# Altium schematic symbol library kmilo17pet-NSC_Interface.SchLib: 1433 symbols (part 48 of 51)
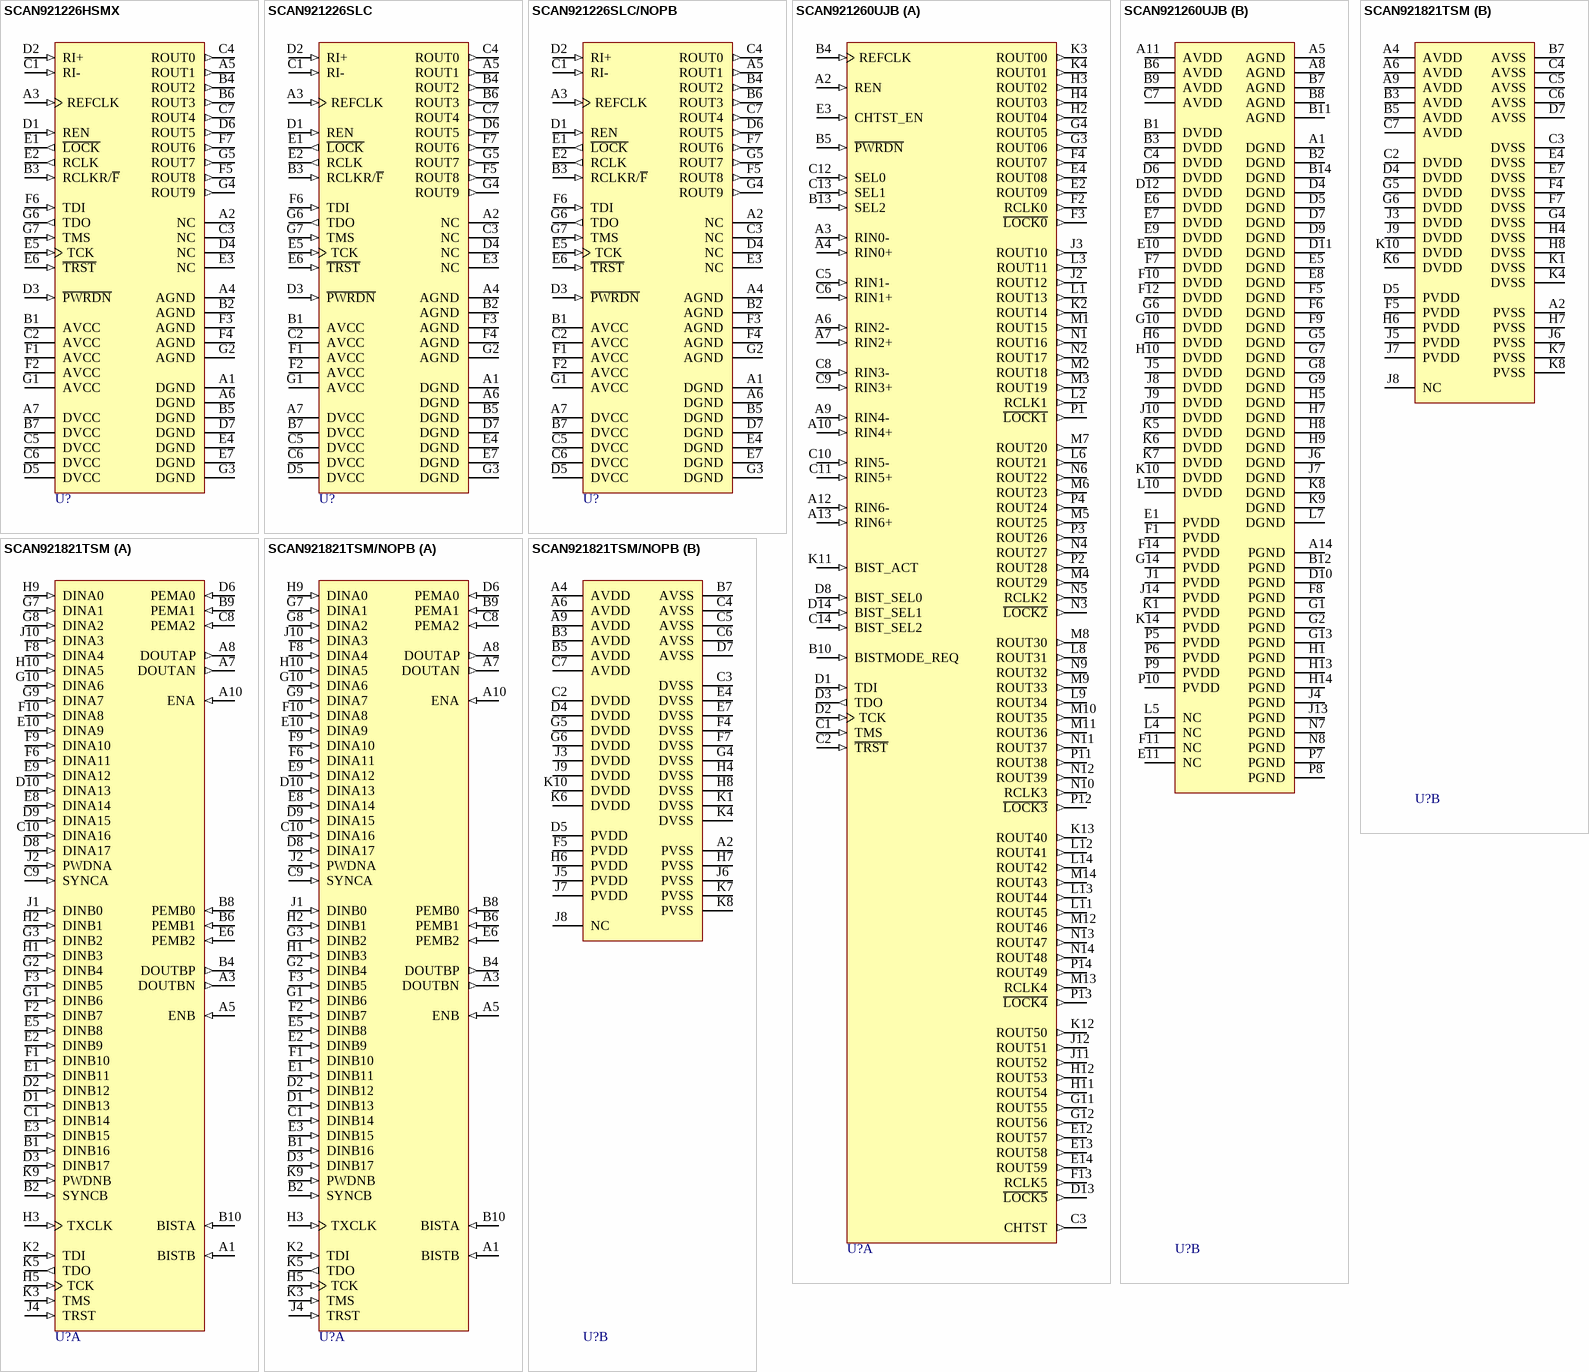
[diagram p171: symbols SCAN921226HSMX to SCAN921821TSM/NOPB]

## SCAN921226HSMX
designator U?
High Temperature 20MHz - 80MHz 10-Bit Deserializer with IEEE 1149.1 Test Access, 49-pin FBGA; PartNumber: SCAN921226HSMX; Manufacturer: National Semiconductor; PackageTopMarking: NSUZXYTTE#*SCAN921226*HSM; PowerWise: N; CompType: Interface IC; High-Reliability: Y; DatasheetVersion: Dec-2005; PackageVersion: revB, Jan, 2003; PackageReference: SLC49A; PackageDescription: FBGA, Plastic, Laminated, 7 x 7 x 1.4mm Body, 49 Ball, 0.8mm Pitch; RoHS: N; PinCount: 49; ComponentLink1Description: Manufacturer URL; ComponentLink1URL: http://www.national.com/; ComponentLink2Description: SCAN921226H Datasheet; ComponentLink2URL: http://www.national.com/ds/SC/SCAN921226H.pdf; ComponentLink3Description: SCAN921226H Web Page; ComponentLink3URL: http://www.national.com/pf/SC/SCAN921226H.html; ComponentLink4Description: SLC49A Package Page; ComponentLink4URL: http://www.national.com/packaging/folders/slc49a.html
footprint SLC49A (BGA, 49-Leads, Body 7x7mm, Pitch 0.8mm)
pins: A1 DGND (power), A2 NC, A3 REFCLK (in), A4 AGND (power), A5 ROUT1 (out), A6 DGND (power), A7 DVCC (power), B1 AVCC (power), B2 AGND (power), B3 RCLKR/~{F} (in), B4 ROUT2 (out), B5 DGND (power), B6 ROUT3 (out), B7 DVCC (power), C1 RI- (in), C2 AVCC (power), C3 NC, C4 ROUT0 (out), C5 DVCC (power), C6 DVCC (power), C7 ROUT4 (out), D1 REN (in), D2 RI+ (in), D3 ~{PWRDN} (in), D4 NC, D5 DVCC (power), D6 ROUT5 (out), D7 DGND (power), E1 ~{LOCK} (out), E2 RCLK (out), E3 NC, E4 DGND (power), E5 TCK (in), E6 ~{TRST} (in), E7 DGND (power), F1 AVCC (power), F2 AVCC (power), F3 AGND (power), F4 AGND (power), F5 ROUT8 (out), F6 TDI (in), F7 ROUT6 (out), G1 AVCC (power), G2 AGND (power), G3 DGND (power), G4 ROUT9 (out), G5 ROUT7 (out), G6 TDO (out), G7 TMS (in)

## SCAN921226SLC
designator U?
30MHz - 80MHz 10-Bit Deserializer with IEEE 1149.1 Test Access, 49-pin FBGA; PartNumber: SCAN921226SLC; Manufacturer: National Semiconductor; PackageTopMarking: NSUZXYTTE#*SCAN921226*SLC; PowerWise: N; CompType: Interface IC; High-Reliability: Y; DatasheetVersion: Dec-2001; PackageVersion: revB, Jan, 2003; PackageReference: SLC49A; PackageDescription: FBGA, Plastic, Laminated, 7 x 7 x 1.4mm Body, 49 Ball, 0.8mm Pitch; RoHS: N; PinCount: 49; ComponentLink1Description: Manufacturer URL; ComponentLink1URL: http://www.national.com/; ComponentLink2Description: SCAN921226 Datasheet; ComponentLink2URL: http://www.national.com/ds/SC/SCAN921226.pdf; ComponentLink3Description: SCAN921226 Web Page; ComponentLink3URL: http://www.national.com/pf/SC/SCAN921226.html; ComponentLink4Description: SLC49A Package Page; ComponentLink4URL: http://www.national.com/packaging/folders/slc49a.html
footprint SLC49A (BGA, 49-Leads, Body 7x7mm, Pitch 0.8mm)
pins: A1 DGND (power), A2 NC, A3 REFCLK (in), A4 AGND (power), A5 ROUT1 (out), A6 DGND (power), A7 DVCC (power), B1 AVCC (power), B2 AGND (power), B3 RCLKR/~{F} (in), B4 ROUT2 (out), B5 DGND (power), B6 ROUT3 (out), B7 DVCC (power), C1 RI- (in), C2 AVCC (power), C3 NC, C4 ROUT0 (out), C5 DVCC (power), C6 DVCC (power), C7 ROUT4 (out), D1 REN (in), D2 RI+ (in), D3 ~{PWRDN} (in), D4 NC, D5 DVCC (power), D6 ROUT5 (out), D7 DGND (power), E1 ~{LOCK} (out), E2 RCLK (out), E3 NC, E4 DGND (power), E5 TCK (in), E6 ~{TRST} (in), E7 DGND (power), F1 AVCC (power), F2 AVCC (power), F3 AGND (power), F4 AGND (power), F5 ROUT8 (out), F6 TDI (in), F7 ROUT6 (out), G1 AVCC (power), G2 AGND (power), G3 DGND (power), G4 ROUT9 (out), G5 ROUT7 (out), G6 TDO (out), G7 TMS (in)

## SCAN921226SLC/NOPB
designator U?
30MHz - 80MHz 10-Bit Deserializer with IEEE 1149.1 Test Access, 49 pin FBGA; PartNumber: SCAN921226SLC/NOPB; Manufacturer: National Semiconductor; PackageTopMarking: NSUZXYTTE#*SCAN921226*SLC; PowerWise: N; CompType: Interface IC; High-Reliability: Y; DatasheetVersion: Dec-2001; PackageVersion: revB, Jan, 2003; PackageReference: SLC49A; PackageDescription: FBGA, Plastic, Laminated, 7 x 7 x 1.4mm Body, 49 Ball, 0.8mm Pitch; RoHS: Y; PinCount: 49; ComponentLink1Description: Manufacturer URL; ComponentLink1URL: http://www.national.com/; ComponentLink2Description: SCAN921226 Datasheet; ComponentLink2URL: http://www.national.com/ds/SC/SCAN921226.pdf; ComponentLink3Description: SCAN921226 Web Page; ComponentLink3URL: http://www.national.com/pf/SC/SCAN921226.html; ComponentLink4Description: SLC49A Package Page; ComponentLink4URL: http://www.national.com/packaging/folders/slc49a.html
footprint SLC49A (BGA, 49-Leads, Body 7x7mm, Pitch 0.8mm)
pins: A1 DGND (power), A2 NC, A3 REFCLK (in), A4 AGND (power), A5 ROUT1 (out), A6 DGND (power), A7 DVCC (power), B1 AVCC (power), B2 AGND (power), B3 RCLKR/~{F} (in), B4 ROUT2 (out), B5 DGND (power), B6 ROUT3 (out), B7 DVCC (power), C1 RI- (in), C2 AVCC (power), C3 NC, C4 ROUT0 (out), C5 DVCC (power), C6 DVCC (power), C7 ROUT4 (out), D1 REN (in), D2 RI+ (in), D3 ~{PWRDN} (in), D4 NC, D5 DVCC (power), D6 ROUT5 (out), D7 DGND (power), E1 ~{LOCK} (out), E2 RCLK (out), E3 NC, E4 DGND (power), E5 TCK (in), E6 ~{TRST} (in), E7 DGND (power), F1 AVCC (power), F2 AVCC (power), F3 AGND (power), F4 AGND (power), F5 ROUT8 (out), F6 TDI (in), F7 ROUT6 (out), G1 AVCC (power), G2 AGND (power), G3 DGND (power), G4 ROUT9 (out), G5 ROUT7 (out), G6 TDO (out), G7 TMS (in)

## SCAN921260UJB
designator U?
Six 1 to 10 deserializers with IEEE 1149.1 and at-speed BIST, 196-pin LBGA; PartNumber: SCAN921260UJB; Manufacturer: National Semiconductor; PackageTopMarking: NSUZXYYTTE#*SCAN921260*UJB; PowerWise: N; CompType: Interface IC; High-Reliability: Y; DatasheetVersion: Jul-2004; PackageVersion: revC, Jul-2005; PackageReference: UJB196A; PackageDescription: LBGA, 15 x 15 x 1.37mm, 196 Ball, 1.0mm Pitch; RoHS: N; PinCount: 196; Code_JEDEC: MO-192-AAE-1; ComponentLink1Description: Manufacturer URL; ComponentLink1URL: http://www.national.com/; ComponentLink2Description: SCAN921260 Datasheet; ComponentLink2URL: http://www.national.com/ds/SC/SCAN921260.pdf; ComponentLink3Description: SCAN921260 Web Page; ComponentLink3URL: http://www.national.com/pf/SC/SCAN921260.html; ComponentLink4Description: UJB196A Package Page; ComponentLink4URL: http://www.national.com/packaging/folders/ujb196a.html
footprint UJB196A (BGA, 196-Leads, Body 15x15mm, Pitch 1mm)
part A pins: A2 REN (in), A3 RIN0- (in), A4 RIN0+ (in), A6 RIN2- (in), A7 RIN2+ (in), A9 RIN4- (in), A10 RIN4+ (in), A12 RIN6- (in), A13 RIN6+ (in), B4 REFCLK (in), B5 ~{PWRDN} (in), B10 BISTMODE_REQ (in), B13 SEL2 (in), C1 TMS (in), C2 ~{TRST} (in), C3 CHTST (out), C5 RIN1- (in), C6 RIN1+ (in), C8 RIN3- (in), C9 RIN3+ (in), C10 RIN5- (in), C11 RIN5+ (in), C12 SEL0 (in), C13 SEL1 (in), C14 BIST_SEL2 (in), D1 TDI (in), D2 TCK (in), D3 TDO (out), D8 BIST_SEL0 (in), D13 ~{LOCK5} (out), D14 BIST_SEL1 (in), E2 ROUT09 (out), E3 CHTST_EN (in), E4 ROUT08 (out), E12 ROUT57 (out), E13 ROUT58 (out), E14 ROUT59 (out), F2 RCLK0 (out), F3 ~{LOCK0} (out), F4 ROUT07 (out), F13 RCLK5 (out), G3 ROUT06 (out), G4 ROUT05 (out), G11 ROUT55 (out), G12 ROUT56 (out), H2 ROUT04 (out), H3 ROUT02 (out), H4 ROUT03 (out), H11 ROUT54 (out), H12 ROUT53 (out), J2 ROUT12 (out), J3 ROUT10 (out), J11 ROUT52 (out), J12 ROUT51 (out), K2 ROUT14 (out), K3 ROUT00 (out), K4 ROUT01 (out), K11 BIST_ACT (in), K12 ROUT50 (out), K13 ROUT40 (out), L1 ROUT13 (out), L2 RCLK1 (out), L3 ROUT11 (out), L6 ROUT21 (out), L8 ROUT31 (out), L9 ROUT34 (out), L11 ROUT45 (out), L12 ROUT41 (out), L13 ROUT44 (out), L14 ROUT42 (out), M1 ROUT15 (out), M2 ROUT18 (out), M3 ROUT19 (out), M4 ROUT29 (out), M5 ROUT25 (out), M6 ROUT23 (out), M7 ROUT20 (out), M8 ROUT30 (out), M9 ROUT33 (out), M10 ROUT35 (out), M11 ROUT36 (out), M12 ROUT46 (out), M13 RCLK4 (out), M14 ROUT43 (out), N1 ROUT16 (out), N2 ROUT17 (out), N3 ~{LOCK2} (out), N4 ROUT27 (out), N5 RCLK2 (out), N6 ROUT22 (out), N9 ROUT32 (out), N10 RCLK3 (out), N11 ROUT37 (out), N12 ROUT39 (out), N13 ROUT47 (out), N14 ROUT48 (out), P1 ~{LOCK1} (out), P2 ROUT28 (out), P3 ROUT26 (out), P4 ROUT24 (out), P11 ROUT38 (out), P12 ~{LOCK3} (out), P13 ~{LOCK4} (out), P14 ROUT49 (out)
part B pins: A1 DGND (power), A5 AGND (power), A8 AGND (power), A11 AVDD (power), A14 PGND (power), B1 DVDD (power), B2 DGND (power), B3 DVDD (power), B6 AVDD (power), B7 AGND (power), B8 AGND (power), B9 AVDD (power), B11 AGND (power), B12 PGND (power), B14 DGND (power), C4 DVDD (power), C7 AVDD (power), D4 DGND (power), D5 DGND (power), D6 DVDD (power), D7 DGND (power), D9 DGND (power), D10 PGND (power), D11 DGND (power), D12 DVDD (power), E1 PVDD (power), E5 DGND (power), E6 DVDD (power), E7 DVDD (power), E8 DGND (power), E9 DVDD (power), E10 DVDD (power), E11 NC, F1 PVDD (power), F5 DGND (power), F6 DGND (power), F7 DVDD (power), F8 PGND (power), F9 DGND (power), F10 DVDD (power), F11 NC, F12 DVDD (power), F14 PVDD (power), G1 PGND (power), G2 PGND (power), G5 DGND (power), G6 DVDD (power), G7 DGND (power), G8 DGND (power), G9 DGND (power), G10 DVDD (power), G13 PGND (power), G14 PVDD (power), H1 PGND (power), H5 DGND (power), H6 DVDD (power), H7 DGND (power), H8 DGND (power), H9 DGND (power), H10 DVDD (power), H13 PGND (power), H14 PGND (power), J1 PVDD (power), J4 PGND (power), J5 DVDD (power), J6 DGND (power), J7 DGND (power), J8 DVDD (power), J9 DVDD (power), J10 DVDD (power), J13 PGND (power), J14 PVDD (power), K1 PVDD (power), K5 DVDD (power), K6 DVDD (power), K7 DVDD (power), K8 DGND (power), K9 DGND (power), K10 DVDD (power), K14 PVDD (power), L4 NC, L5 NC, L7 DGND (power), L10 DVDD (power), N7 PGND (power), N8 PGND (power), P5 PVDD (power), P6 PVDD (power), P7 PGND (power), P8 PGND (power), P9 PVDD (power), P10 PVDD (power)

## SCAN921821TSM
designator U?
Dual 18-Bit Serializer with Pre-Emphasis, IEEE 1149.1 (JTAG), and At-Speed BIST, 100-pin FBGA; PartNumber: SCAN921821TSM; Manufacturer: National Semiconductor; PackageTopMarking: NSUZXYTTE#*SCAN921821*TSM; PowerWise: N; CompType: Interface IC; High-Reliability: Y; DatasheetVersion: Nov-2004; PackageVersion: revB, Mar-1999; PackageReference: SLC100A; PackageDescription: FBGA, Plastic, Laminated, 10 x 10 x 1.4mm Body, 100 Ball, 0.8mm Pitch; RoHS: N; PinCount: 100; ComponentLink1Description: Manufacturer URL; ComponentLink1URL: http://www.national.com/; ComponentLink2Description: SCAN921821 Datasheet; ComponentLink2URL: http://www.national.com/ds/SC/SCAN921821.pdf; ComponentLink3Description: SCAN921821 Web Page; ComponentLink3URL: http://www.national.com/pf/SC/SCAN921821.html; ComponentLink4Description: SLC100A Package Page; ComponentLink4URL: http://www.national.com/packaging/folders/slc100a.html
footprint SLC100A (BGA, 100-Leads, Body 10x10mm, Pitch 0.8mm)
part A pins: A1 BISTB (in), A3 DOUTBN (out), A5 ENB (in), A7 DOUTAN (out), A8 DOUTAP (out), A10 ENA (in), B1 DINB16 (in), B2 SYNCB (in), B4 DOUTBP (out), B6 PEMB1 (in), B8 PEMB0 (in), B9 PEMA1 (in), B10 BISTA (in), C1 DINB14 (in), C8 PEMA2 (in), C9 SYNCA (in), C10 DINA16 (in), D1 DINB13 (in), D2 DINB12 (in), D3 DINB17 (in), D6 PEMA0 (in), D8 DINA17 (in), D9 DINA15 (in), D10 DINA13 (in), E1 DINB11 (in), E2 DINB9 (in), E3 DINB15 (in), E5 DINB8 (in), E6 PEMB2 (in), E8 DINA14 (in), E9 DINA12 (in), E10 DINA9 (in), F1 DINB10 (in), F2 DINB7 (in), F3 DINB5 (in), F6 DINA11 (in), F8 DINA4 (in), F9 DINA10 (in), F10 DINA8 (in), G1 DINB6 (in), G2 DINB4 (in), G3 DINB2 (in), G7 DINA1 (in), G8 DINA2 (in), G9 DINA7 (in), G10 DINA6 (in), H1 DINB3 (in), H2 DINB1 (in), H3 TXCLK (in), H5 TCK (in), H9 DINA0 (in), H10 DINA5 (in), J1 DINB0 (in), J2 PWDNA (in), J4 TRST (in), J10 DINA3 (in), K2 TDI (in), K3 TMS (in), K5 TDO (out), K9 PWDNB (in)
part B pins: A2 PVSS (power), A4 AVDD (power), A6 AVDD (power), A9 AVDD (power), B3 AVDD (power), B5 AVDD (power), B7 AVSS (power), C2 DVDD (power), C3 DVSS (power), C4 AVSS (power), C5 AVSS (power), C6 AVSS (power), C7 AVDD (power), D4 DVDD (power), D5 PVDD (power), D7 AVSS (power), E4 DVSS (power), E7 DVSS (power), F4 DVSS (power), F5 PVDD (power), F7 DVSS (power), G4 DVSS (power), G5 DVDD (power), G6 DVDD (power), H4 DVSS (power), H6 PVDD (power), H7 PVSS (power), H8 DVSS (power), J3 DVDD (power), J5 PVDD (power), J6 PVSS (power), J7 PVDD (power), J8 NC, J9 DVDD (power), K1 DVSS (power), K4 DVSS (power), K6 DVDD (power), K7 PVSS (power), K8 PVSS (power), K10 DVDD (power)

## SCAN921821TSM/NOPB
designator U?
Dual 18-Bit Serializer with Pre-Emphasis, IEEE 1149.1 (JTAG), and At-Speed BIST, 100-pin FBGA, Pb-Free; PartNumber: SCAN921821TSM/NOPB; Manufacturer: National Semiconductor; PackageTopMarking: NSUZXYTTE#*SCAN921821*TSM; PowerWise: N; CompType: Interface IC; High-Reliability: Y; DatasheetVersion: Nov-2004; PackageVersion: revB, Mar-1999; PackageReference: SLC100A; PackageDescription: FBGA, Plastic, Laminated, 10 x 10 x 1.4mm Body, 100 Ball, 0.8mm Pitch; RoHS: Y; PinCount: 100; ComponentLink1Description: Manufacturer URL; ComponentLink1URL: http://www.national.com/; ComponentLink2Description: SCAN921821 Datasheet; ComponentLink2URL: http://www.national.com/ds/SC/SCAN921821.pdf; ComponentLink3Description: SCAN921821 Web Page; ComponentLink3URL: http://www.national.com/pf/SC/SCAN921821.html; ComponentLink4Description: SLC100A Package Page; ComponentLink4URL: http://www.national.com/packaging/folders/slc100a.html
footprint SLC100A (BGA, 100-Leads, Body 10x10mm, Pitch 0.8mm)
part A pins: A1 BISTB (in), A3 DOUTBN (out), A5 ENB (in), A7 DOUTAN (out), A8 DOUTAP (out), A10 ENA (in), B1 DINB16 (in), B2 SYNCB (in), B4 DOUTBP (out), B6 PEMB1 (in), B8 PEMB0 (in), B9 PEMA1 (in), B10 BISTA (in), C1 DINB14 (in), C8 PEMA2 (in), C9 SYNCA (in), C10 DINA16 (in), D1 DINB13 (in), D2 DINB12 (in), D3 DINB17 (in), D6 PEMA0 (in), D8 DINA17 (in), D9 DINA15 (in), D10 DINA13 (in), E1 DINB11 (in), E2 DINB9 (in), E3 DINB15 (in), E5 DINB8 (in), E6 PEMB2 (in), E8 DINA14 (in), E9 DINA12 (in), E10 DINA9 (in), F1 DINB10 (in), F2 DINB7 (in), F3 DINB5 (in), F6 DINA11 (in), F8 DINA4 (in), F9 DINA10 (in), F10 DINA8 (in), G1 DINB6 (in), G2 DINB4 (in), G3 DINB2 (in), G7 DINA1 (in), G8 DINA2 (in), G9 DINA7 (in), G10 DINA6 (in), H1 DINB3 (in), H2 DINB1 (in), H3 TXCLK (in), H5 TCK (in), H9 DINA0 (in), H10 DINA5 (in), J1 DINB0 (in), J2 PWDNA (in), J4 TRST (in), J10 DINA3 (in), K2 TDI (in), K3 TMS (in), K5 TDO (out), K9 PWDNB (in)
part B pins: A2 PVSS (power), A4 AVDD (power), A6 AVDD (power), A9 AVDD (power), B3 AVDD (power), B5 AVDD (power), B7 AVSS (power), C2 DVDD (power), C3 DVSS (power), C4 AVSS (power), C5 AVSS (power), C6 AVSS (power), C7 AVDD (power), D4 DVDD (power), D5 PVDD (power), D7 AVSS (power), E4 DVSS (power), E7 DVSS (power), F4 DVSS (power), F5 PVDD (power), F7 DVSS (power), G4 DVSS (power), G5 DVDD (power), G6 DVDD (power), H4 DVSS (power), H6 PVDD (power), H7 PVSS (power), H8 DVSS (power), J3 DVDD (power), J5 PVDD (power), J6 PVSS (power), J7 PVDD (power), J8 NC, J9 DVDD (power), K1 DVSS (power), K4 DVSS (power), K6 DVDD (power), K7 PVSS (power), K8 PVSS (power), K10 DVDD (power)

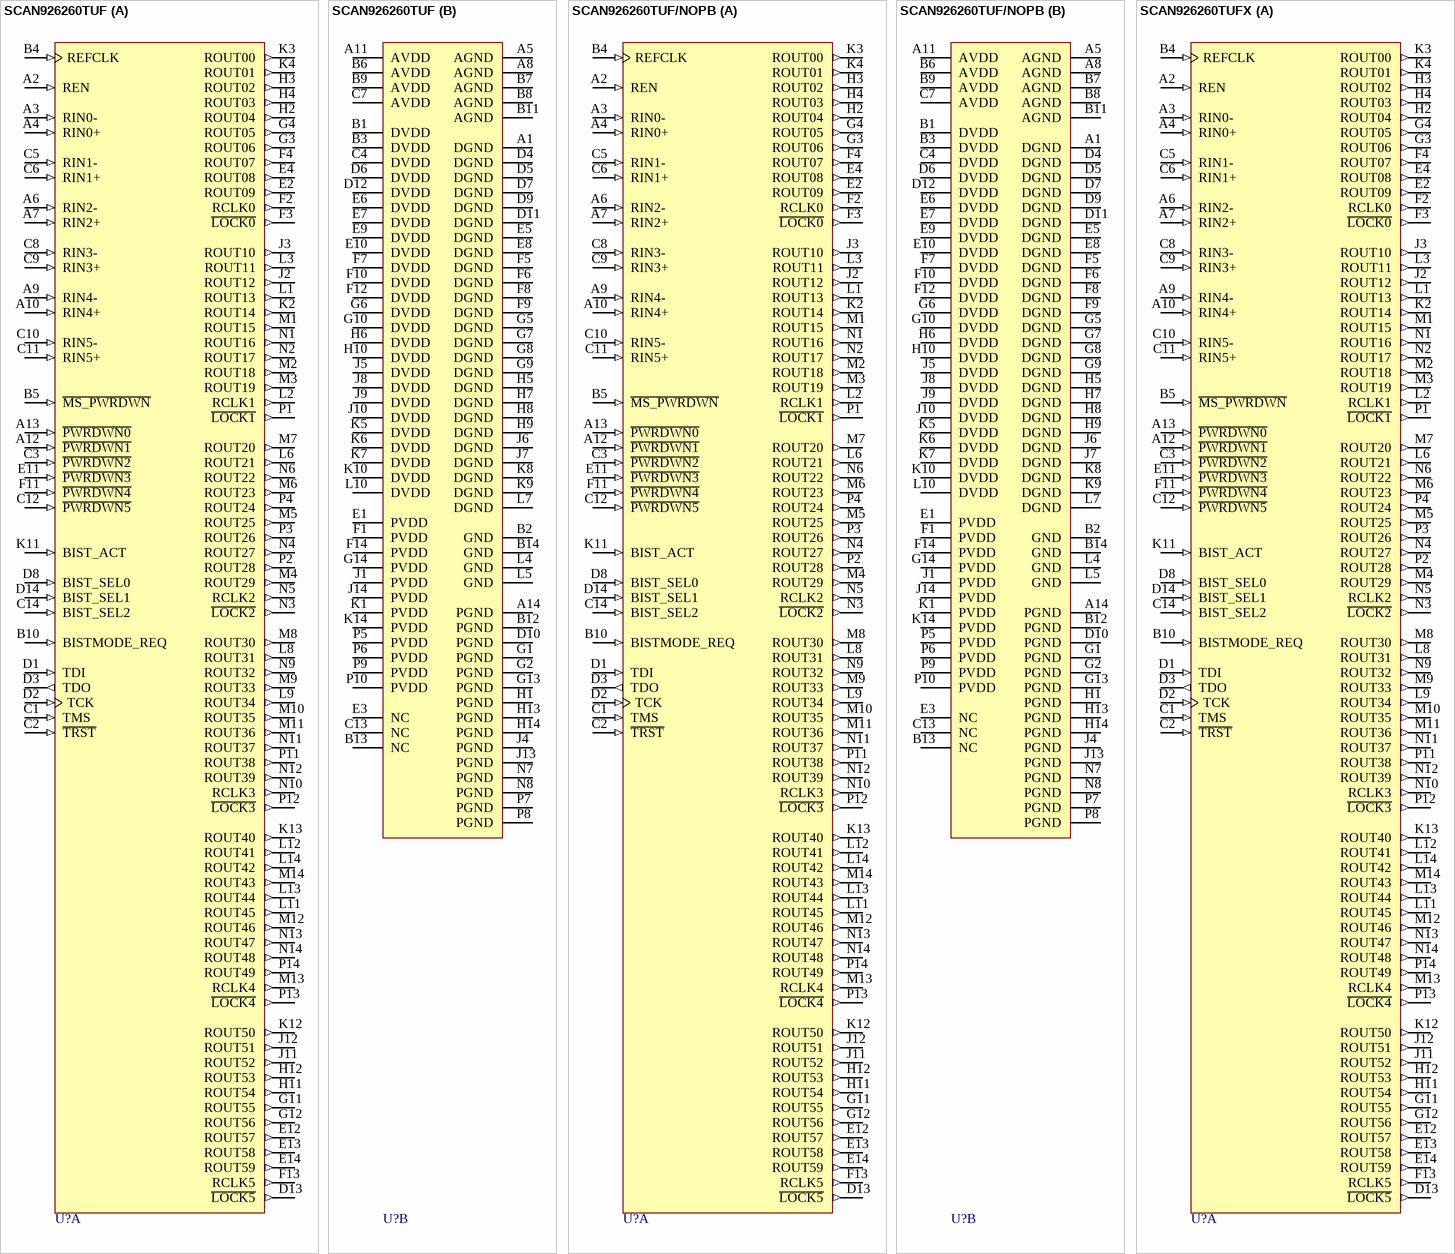
[diagram p116: symbols SCAN926260TUF to SCAN926260TUFX]

## SCAN926260TUF
designator U?
Six 1 to 10 Bus LVDS Deserializers with IEEE 1149.1 and At-Speed BIST, 196-pin LBGA; PartNumber: SCAN926260TUF; Manufacturer: National Semiconductor; PackageTopMarking: NSUZXYYTTE#*SCAN926260T*UF*BBBBB; PowerWise: N; CompType: Interface IC; High-Reliability: Y; DatasheetVersion: May-2008; PackageVersion: revC, Jul-2005; PackageReference: UJB196A; PackageDescription: LBGA, 15 x 15 x 1.37mm, 196 Ball, 1.0mm Pitch; RoHS: N; PinCount: 196; Code_JEDEC: MO-192-AAE-1; ComponentLink1Description: Manufacturer URL; ComponentLink1URL: http://www.national.com/; ComponentLink2Description: SCAN926260 Datasheet; ComponentLink2URL: http://www.national.com/ds/SC/SCAN926260.pdf; ComponentLink3Description: SCAN926260 Web Page; ComponentLink3URL: http://www.national.com/pf/SC/SCAN926260.html; ComponentLink4Description: UJB196A Package Page; ComponentLink4URL: http://www.national.com/packaging/folders/ujb196a.html
footprint UJB196A (BGA, 196-Leads, Body 15x15mm, Pitch 1mm)
part A pins: A2 REN (in), A3 RIN0- (in), A4 RIN0+ (in), A6 RIN2- (in), A7 RIN2+ (in), A9 RIN4- (in), A10 RIN4+ (in), A12 ~{PWRDWN1} (in), A13 ~{PWRDWN0} (in), B4 REFCLK (in), B5 ~{MS_PWRDWN} (in), B10 BISTMODE_REQ (in), C1 TMS (in), C2 ~{TRST} (in), C3 ~{PWRDWN2} (in), C5 RIN1- (in), C6 RIN1+ (in), C8 RIN3- (in), C9 RIN3+ (in), C10 RIN5- (in), C11 RIN5+ (in), C12 ~{PWRDWN5} (in), C14 BIST_SEL2 (in), D1 TDI (in), D2 TCK (in), D3 TDO (out), D8 BIST_SEL0 (in), D13 ~{LOCK5} (out), D14 BIST_SEL1 (in), E2 ROUT09 (out), E4 ROUT08 (out), E11 ~{PWRDWN3} (in), E12 ROUT57 (out), E13 ROUT58 (out), E14 ROUT59 (out), F2 RCLK0 (out), F3 ~{LOCK0} (out), F4 ROUT07 (out), F11 ~{PWRDWN4} (in), F13 RCLK5 (out), G3 ROUT06 (out), G4 ROUT05 (out), G11 ROUT55 (out), G12 ROUT56 (out), H2 ROUT04 (out), H3 ROUT02 (out), H4 ROUT03 (out), H11 ROUT54 (out), H12 ROUT53 (out), J2 ROUT12 (out), J3 ROUT10 (out), J11 ROUT52 (out), J12 ROUT51 (out), K2 ROUT14 (out), K3 ROUT00 (out), K4 ROUT01 (out), K11 BIST_ACT (in), K12 ROUT50 (out), K13 ROUT40 (out), L1 ROUT13 (out), L2 RCLK1 (out), L3 ROUT11 (out), L6 ROUT21 (out), L8 ROUT31 (out), L9 ROUT34 (out), L11 ROUT45 (out), L12 ROUT41 (out), L13 ROUT44 (out), L14 ROUT42 (out), M1 ROUT15 (out), M2 ROUT18 (out), M3 ROUT19 (out), M4 ROUT29 (out), M5 ROUT25 (out), M6 ROUT23 (out), M7 ROUT20 (out), M8 ROUT30 (out), M9 ROUT33 (out), M10 ROUT35 (out), M11 ROUT36 (out), M12 ROUT46 (out), M13 RCLK4 (out), M14 ROUT43 (out), N1 ROUT16 (out), N2 ROUT17 (out), N3 ~{LOCK2} (out), N4 ROUT27 (out), N5 RCLK2 (out), N6 ROUT22 (out), N9 ROUT32 (out), N10 RCLK3 (out), N11 ROUT37 (out), N12 ROUT39 (out), N13 ROUT47 (out), N14 ROUT48 (out), P1 ~{LOCK1} (out), P2 ROUT28 (out), P3 ROUT26 (out), P4 ROUT24 (out), P11 ROUT38 (out), P12 ~{LOCK3} (out), P13 ~{LOCK4} (out), P14 ROUT49 (out)
part B pins: A1 DGND (power), A5 AGND (power), A8 AGND (power), A11 AVDD (power), A14 PGND (power), B1 DVDD (power), B2 GND (power), B3 DVDD (power), B6 AVDD (power), B7 AGND (power), B8 AGND (power), B9 AVDD (power), B11 AGND (power), B12 PGND (power), B13 NC, B14 GND (power), C4 DVDD (power), C7 AVDD (power), C13 NC, D4 DGND (power), D5 DGND (power), D6 DVDD (power), D7 DGND (power), D9 DGND (power), D10 PGND (power), D11 DGND (power), D12 DVDD (power), E1 PVDD (power), E3 NC, E5 DGND (power), E6 DVDD (power), E7 DVDD (power), E8 DGND (power), E9 DVDD (power), E10 DVDD (power), F1 PVDD (power), F5 DGND (power), F6 DGND (power), F7 DVDD (power), F8 DGND (power), F9 DGND (power), F10 DVDD (power), F12 DVDD (power), F14 PVDD (power), G1 PGND (power), G2 PGND (power), G5 DGND (power), G6 DVDD (power), G7 DGND (power), G8 DGND (power), G9 DGND (power), G10 DVDD (power), G13 PGND (power), G14 PVDD (power), H1 PGND (power), H5 DGND (power), H6 DVDD (power), H7 DGND (power), H8 DGND (power), H9 DGND (power), H10 DVDD (power), H13 PGND (power), H14 PGND (power), J1 PVDD (power), J4 PGND (power), J5 DVDD (power), J6 DGND (power), J7 DGND (power), J8 DVDD (power), J9 DVDD (power), J10 DVDD (power), J13 PGND (power), J14 PVDD (power), K1 PVDD (power), K5 DVDD (power), K6 DVDD (power), K7 DVDD (power), K8 DGND (power), K9 DGND (power), K10 DVDD (power), K14 PVDD (power), L4 GND (power), L5 GND (power), L7 DGND (power), L10 DVDD (power), N7 PGND (power), N8 PGND (power), P5 PVDD (power), P6 PVDD (power), P7 PGND (power), P8 PGND (power), P9 PVDD (power), P10 PVDD (power)

## SCAN926260TUF/NOPB
designator U?
Six 1 to 10 Bus LVDS Deserializers with IEEE 1149.1 and At-Speed BIST, 196-pin LBGA, Pb-Free; PartNumber: SCAN926260TUF/NOPB; Manufacturer: National Semiconductor; PackageTopMarking: NSUZXYYTTE#*SCAN926260T*UF*BBBBB; PowerWise: N; CompType: Interface IC; High-Reliability: Y; DatasheetVersion: May-2008; PackageVersion: revC, Jul-2005; PackageReference: UJB196A; PackageDescription: LBGA, 15 x 15 x 1.37mm, 196 Ball, 1.0mm Pitch; RoHS: Y; PinCount: 196; Code_JEDEC: MO-192-AAE-1; ComponentLink1Description: Manufacturer URL; ComponentLink1URL: http://www.national.com/; ComponentLink2Description: SCAN926260 Datasheet; ComponentLink2URL: http://www.national.com/ds/SC/SCAN926260.pdf; ComponentLink3Description: SCAN926260 Web Page; ComponentLink3URL: http://www.national.com/pf/SC/SCAN926260.html; ComponentLink4Description: UJB196A Package Page; ComponentLink4URL: http://www.national.com/packaging/folders/ujb196a.html
footprint UJB196A (BGA, 196-Leads, Body 15x15mm, Pitch 1mm)
part A pins: A2 REN (in), A3 RIN0- (in), A4 RIN0+ (in), A6 RIN2- (in), A7 RIN2+ (in), A9 RIN4- (in), A10 RIN4+ (in), A12 ~{PWRDWN1} (in), A13 ~{PWRDWN0} (in), B4 REFCLK (in), B5 ~{MS_PWRDWN} (in), B10 BISTMODE_REQ (in), C1 TMS (in), C2 ~{TRST} (in), C3 ~{PWRDWN2} (in), C5 RIN1- (in), C6 RIN1+ (in), C8 RIN3- (in), C9 RIN3+ (in), C10 RIN5- (in), C11 RIN5+ (in), C12 ~{PWRDWN5} (in), C14 BIST_SEL2 (in), D1 TDI (in), D2 TCK (in), D3 TDO (out), D8 BIST_SEL0 (in), D13 ~{LOCK5} (out), D14 BIST_SEL1 (in), E2 ROUT09 (out), E4 ROUT08 (out), E11 ~{PWRDWN3} (in), E12 ROUT57 (out), E13 ROUT58 (out), E14 ROUT59 (out), F2 RCLK0 (out), F3 ~{LOCK0} (out), F4 ROUT07 (out), F11 ~{PWRDWN4} (in), F13 RCLK5 (out), G3 ROUT06 (out), G4 ROUT05 (out), G11 ROUT55 (out), G12 ROUT56 (out), H2 ROUT04 (out), H3 ROUT02 (out), H4 ROUT03 (out), H11 ROUT54 (out), H12 ROUT53 (out), J2 ROUT12 (out), J3 ROUT10 (out), J11 ROUT52 (out), J12 ROUT51 (out), K2 ROUT14 (out), K3 ROUT00 (out), K4 ROUT01 (out), K11 BIST_ACT (in), K12 ROUT50 (out), K13 ROUT40 (out), L1 ROUT13 (out), L2 RCLK1 (out), L3 ROUT11 (out), L6 ROUT21 (out), L8 ROUT31 (out), L9 ROUT34 (out), L11 ROUT45 (out), L12 ROUT41 (out), L13 ROUT44 (out), L14 ROUT42 (out), M1 ROUT15 (out), M2 ROUT18 (out), M3 ROUT19 (out), M4 ROUT29 (out), M5 ROUT25 (out), M6 ROUT23 (out), M7 ROUT20 (out), M8 ROUT30 (out), M9 ROUT33 (out), M10 ROUT35 (out), M11 ROUT36 (out), M12 ROUT46 (out), M13 RCLK4 (out), M14 ROUT43 (out), N1 ROUT16 (out), N2 ROUT17 (out), N3 ~{LOCK2} (out), N4 ROUT27 (out), N5 RCLK2 (out), N6 ROUT22 (out), N9 ROUT32 (out), N10 RCLK3 (out), N11 ROUT37 (out), N12 ROUT39 (out), N13 ROUT47 (out), N14 ROUT48 (out), P1 ~{LOCK1} (out), P2 ROUT28 (out), P3 ROUT26 (out), P4 ROUT24 (out), P11 ROUT38 (out), P12 ~{LOCK3} (out), P13 ~{LOCK4} (out), P14 ROUT49 (out)
part B pins: A1 DGND (power), A5 AGND (power), A8 AGND (power), A11 AVDD (power), A14 PGND (power), B1 DVDD (power), B2 GND (power), B3 DVDD (power), B6 AVDD (power), B7 AGND (power), B8 AGND (power), B9 AVDD (power), B11 AGND (power), B12 PGND (power), B13 NC, B14 GND (power), C4 DVDD (power), C7 AVDD (power), C13 NC, D4 DGND (power), D5 DGND (power), D6 DVDD (power), D7 DGND (power), D9 DGND (power), D10 PGND (power), D11 DGND (power), D12 DVDD (power), E1 PVDD (power), E3 NC, E5 DGND (power), E6 DVDD (power), E7 DVDD (power), E8 DGND (power), E9 DVDD (power), E10 DVDD (power), F1 PVDD (power), F5 DGND (power), F6 DGND (power), F7 DVDD (power), F8 DGND (power), F9 DGND (power), F10 DVDD (power), F12 DVDD (power), F14 PVDD (power), G1 PGND (power), G2 PGND (power), G5 DGND (power), G6 DVDD (power), G7 DGND (power), G8 DGND (power), G9 DGND (power), G10 DVDD (power), G13 PGND (power), G14 PVDD (power), H1 PGND (power), H5 DGND (power), H6 DVDD (power), H7 DGND (power), H8 DGND (power), H9 DGND (power), H10 DVDD (power), H13 PGND (power), H14 PGND (power), J1 PVDD (power), J4 PGND (power), J5 DVDD (power), J6 DGND (power), J7 DGND (power), J8 DVDD (power), J9 DVDD (power), J10 DVDD (power), J13 PGND (power), J14 PVDD (power), K1 PVDD (power), K5 DVDD (power), K6 DVDD (power), K7 DVDD (power), K8 DGND (power), K9 DGND (power), K10 DVDD (power), K14 PVDD (power), L4 GND (power), L5 GND (power), L7 DGND (power), L10 DVDD (power), N7 PGND (power), N8 PGND (power), P5 PVDD (power), P6 PVDD (power), P7 PGND (power), P8 PGND (power), P9 PVDD (power), P10 PVDD (power)

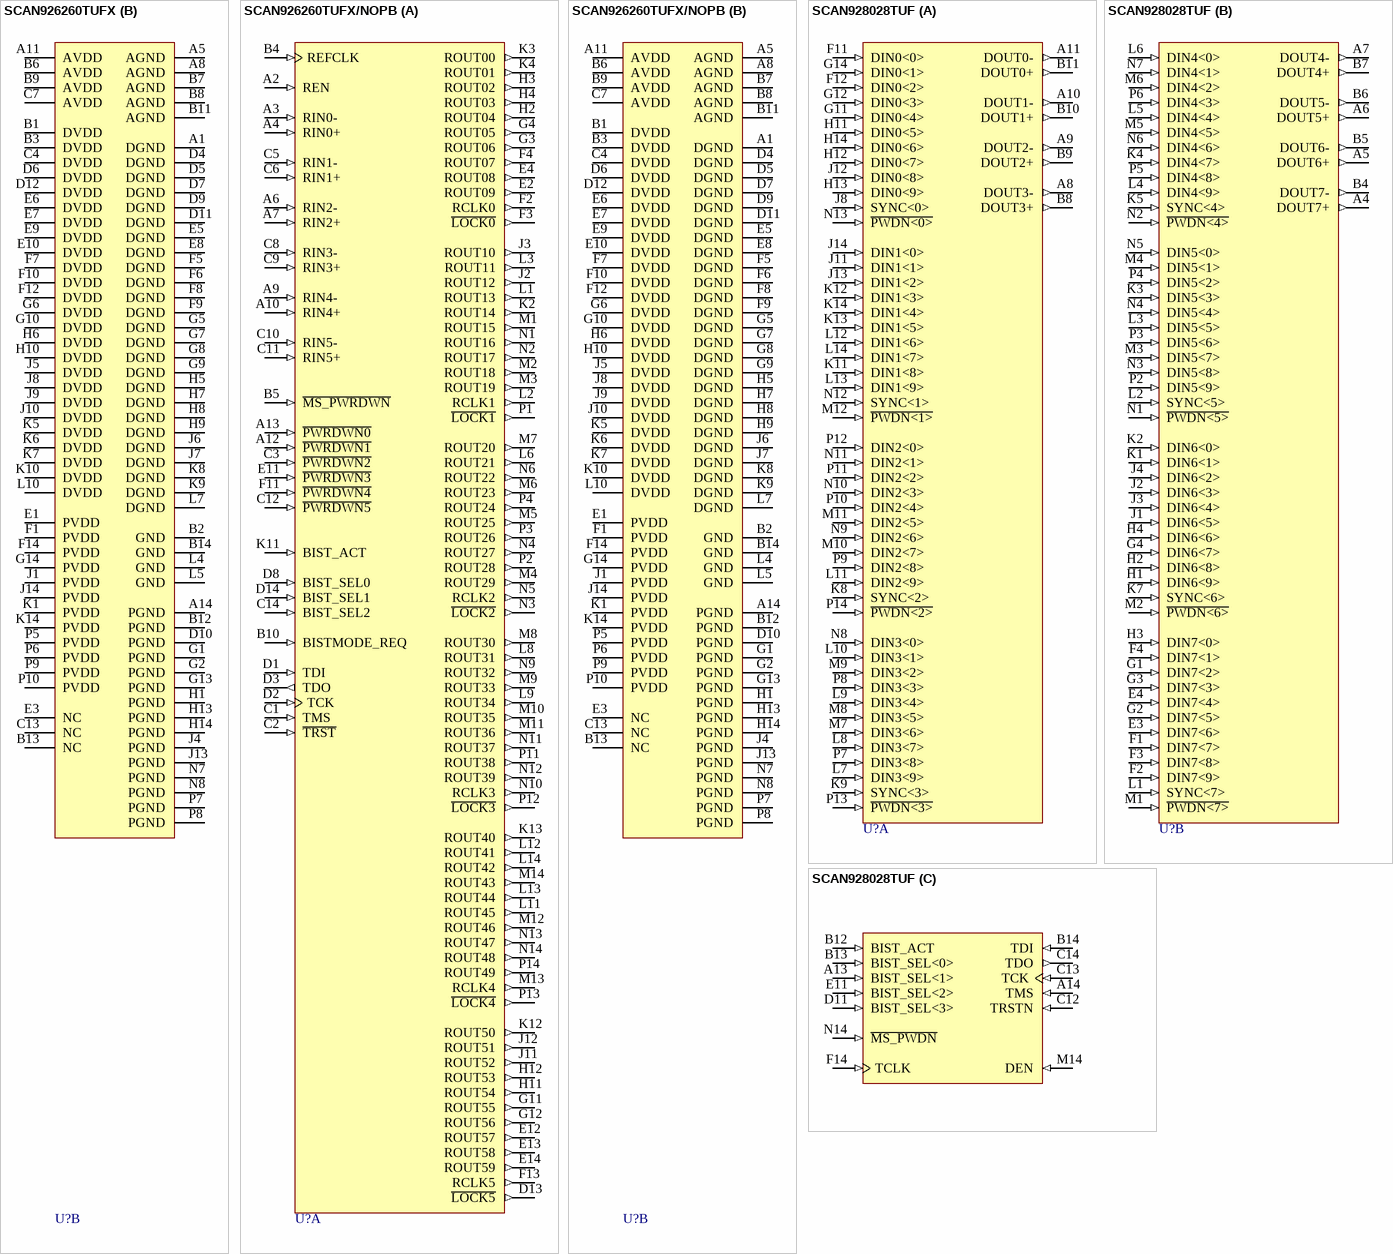
[diagram p117: symbols SCAN926260TUFX to SCAN928028TUF]

## SCAN926260TUFX
designator U?
Six 1 to 10 Bus LVDS Deserializers with IEEE 1149.1 and At-Speed BIST, 196-pin LBGA; PartNumber: SCAN926260TUFX; Manufacturer: National Semiconductor; PackageTopMarking: NSUZXYYTTE#*SCAN926260T*UF*BBBBB; PowerWise: N; CompType: Interface IC; High-Reliability: Y; DatasheetVersion: May-2008; PackageVersion: revC, Jul-2005; PackageReference: UJB196A; PackageDescription: LBGA, 15 x 15 x 1.37mm, 196 Ball, 1.0mm Pitch; RoHS: N; PinCount: 196; Code_JEDEC: MO-192-AAE-1; ComponentLink1Description: Manufacturer URL; ComponentLink1URL: http://www.national.com/; ComponentLink2Description: SCAN926260 Datasheet; ComponentLink2URL: http://www.national.com/ds/SC/SCAN926260.pdf; ComponentLink3Description: SCAN926260 Web Page; ComponentLink3URL: http://www.national.com/pf/SC/SCAN926260.html; ComponentLink4Description: UJB196A Package Page; ComponentLink4URL: http://www.national.com/packaging/folders/ujb196a.html
footprint UJB196A (BGA, 196-Leads, Body 15x15mm, Pitch 1mm)
part A pins: A2 REN (in), A3 RIN0- (in), A4 RIN0+ (in), A6 RIN2- (in), A7 RIN2+ (in), A9 RIN4- (in), A10 RIN4+ (in), A12 ~{PWRDWN1} (in), A13 ~{PWRDWN0} (in), B4 REFCLK (in), B5 ~{MS_PWRDWN} (in), B10 BISTMODE_REQ (in), C1 TMS (in), C2 ~{TRST} (in), C3 ~{PWRDWN2} (in), C5 RIN1- (in), C6 RIN1+ (in), C8 RIN3- (in), C9 RIN3+ (in), C10 RIN5- (in), C11 RIN5+ (in), C12 ~{PWRDWN5} (in), C14 BIST_SEL2 (in), D1 TDI (in), D2 TCK (in), D3 TDO (out), D8 BIST_SEL0 (in), D13 ~{LOCK5} (out), D14 BIST_SEL1 (in), E2 ROUT09 (out), E4 ROUT08 (out), E11 ~{PWRDWN3} (in), E12 ROUT57 (out), E13 ROUT58 (out), E14 ROUT59 (out), F2 RCLK0 (out), F3 ~{LOCK0} (out), F4 ROUT07 (out), F11 ~{PWRDWN4} (in), F13 RCLK5 (out), G3 ROUT06 (out), G4 ROUT05 (out), G11 ROUT55 (out), G12 ROUT56 (out), H2 ROUT04 (out), H3 ROUT02 (out), H4 ROUT03 (out), H11 ROUT54 (out), H12 ROUT53 (out), J2 ROUT12 (out), J3 ROUT10 (out), J11 ROUT52 (out), J12 ROUT51 (out), K2 ROUT14 (out), K3 ROUT00 (out), K4 ROUT01 (out), K11 BIST_ACT (in), K12 ROUT50 (out), K13 ROUT40 (out), L1 ROUT13 (out), L2 RCLK1 (out), L3 ROUT11 (out), L6 ROUT21 (out), L8 ROUT31 (out), L9 ROUT34 (out), L11 ROUT45 (out), L12 ROUT41 (out), L13 ROUT44 (out), L14 ROUT42 (out), M1 ROUT15 (out), M2 ROUT18 (out), M3 ROUT19 (out), M4 ROUT29 (out), M5 ROUT25 (out), M6 ROUT23 (out), M7 ROUT20 (out), M8 ROUT30 (out), M9 ROUT33 (out), M10 ROUT35 (out), M11 ROUT36 (out), M12 ROUT46 (out), M13 RCLK4 (out), M14 ROUT43 (out), N1 ROUT16 (out), N2 ROUT17 (out), N3 ~{LOCK2} (out), N4 ROUT27 (out), N5 RCLK2 (out), N6 ROUT22 (out), N9 ROUT32 (out), N10 RCLK3 (out), N11 ROUT37 (out), N12 ROUT39 (out), N13 ROUT47 (out), N14 ROUT48 (out), P1 ~{LOCK1} (out), P2 ROUT28 (out), P3 ROUT26 (out), P4 ROUT24 (out), P11 ROUT38 (out), P12 ~{LOCK3} (out), P13 ~{LOCK4} (out), P14 ROUT49 (out)
part B pins: A1 DGND (power), A5 AGND (power), A8 AGND (power), A11 AVDD (power), A14 PGND (power), B1 DVDD (power), B2 GND (power), B3 DVDD (power), B6 AVDD (power), B7 AGND (power), B8 AGND (power), B9 AVDD (power), B11 AGND (power), B12 PGND (power), B13 NC, B14 GND (power), C4 DVDD (power), C7 AVDD (power), C13 NC, D4 DGND (power), D5 DGND (power), D6 DVDD (power), D7 DGND (power), D9 DGND (power), D10 PGND (power), D11 DGND (power), D12 DVDD (power), E1 PVDD (power), E3 NC, E5 DGND (power), E6 DVDD (power), E7 DVDD (power), E8 DGND (power), E9 DVDD (power), E10 DVDD (power), F1 PVDD (power), F5 DGND (power), F6 DGND (power), F7 DVDD (power), F8 DGND (power), F9 DGND (power), F10 DVDD (power), F12 DVDD (power), F14 PVDD (power), G1 PGND (power), G2 PGND (power), G5 DGND (power), G6 DVDD (power), G7 DGND (power), G8 DGND (power), G9 DGND (power), G10 DVDD (power), G13 PGND (power), G14 PVDD (power), H1 PGND (power), H5 DGND (power), H6 DVDD (power), H7 DGND (power), H8 DGND (power), H9 DGND (power), H10 DVDD (power), H13 PGND (power), H14 PGND (power), J1 PVDD (power), J4 PGND (power), J5 DVDD (power), J6 DGND (power), J7 DGND (power), J8 DVDD (power), J9 DVDD (power), J10 DVDD (power), J13 PGND (power), J14 PVDD (power), K1 PVDD (power), K5 DVDD (power), K6 DVDD (power), K7 DVDD (power), K8 DGND (power), K9 DGND (power), K10 DVDD (power), K14 PVDD (power), L4 GND (power), L5 GND (power), L7 DGND (power), L10 DVDD (power), N7 PGND (power), N8 PGND (power), P5 PVDD (power), P6 PVDD (power), P7 PGND (power), P8 PGND (power), P9 PVDD (power), P10 PVDD (power)

## SCAN926260TUFX/NOPB
designator U?
Six 1 to 10 Bus LVDS Deserializers with IEEE 1149.1 and At-Speed BIST, 196-pin LBGA, Pb-Free; PartNumber: SCAN926260TUFX/NOPB; Manufacturer: National Semiconductor; PackageTopMarking: NSUZXYYTTE#*SCAN926260T*UF*BBBBB; PowerWise: N; CompType: Interface IC; High-Reliability: Y; DatasheetVersion: May-2008; PackageVersion: revC, Jul-2005; PackageReference: UJB196A; PackageDescription: LBGA, 15 x 15 x 1.37mm, 196 Ball, 1.0mm Pitch; RoHS: Y; PinCount: 196; Code_JEDEC: MO-192-AAE-1; ComponentLink1Description: Manufacturer URL; ComponentLink1URL: http://www.national.com/; ComponentLink2Description: SCAN926260 Datasheet; ComponentLink2URL: http://www.national.com/ds/SC/SCAN926260.pdf; ComponentLink3Description: SCAN926260 Web Page; ComponentLink3URL: http://www.national.com/pf/SC/SCAN926260.html; ComponentLink4Description: UJB196A Package Page; ComponentLink4URL: http://www.national.com/packaging/folders/ujb196a.html
footprint UJB196A (BGA, 196-Leads, Body 15x15mm, Pitch 1mm)
part A pins: A2 REN (in), A3 RIN0- (in), A4 RIN0+ (in), A6 RIN2- (in), A7 RIN2+ (in), A9 RIN4- (in), A10 RIN4+ (in), A12 ~{PWRDWN1} (in), A13 ~{PWRDWN0} (in), B4 REFCLK (in), B5 ~{MS_PWRDWN} (in), B10 BISTMODE_REQ (in), C1 TMS (in), C2 ~{TRST} (in), C3 ~{PWRDWN2} (in), C5 RIN1- (in), C6 RIN1+ (in), C8 RIN3- (in), C9 RIN3+ (in), C10 RIN5- (in), C11 RIN5+ (in), C12 ~{PWRDWN5} (in), C14 BIST_SEL2 (in), D1 TDI (in), D2 TCK (in), D3 TDO (out), D8 BIST_SEL0 (in), D13 ~{LOCK5} (out), D14 BIST_SEL1 (in), E2 ROUT09 (out), E4 ROUT08 (out), E11 ~{PWRDWN3} (in), E12 ROUT57 (out), E13 ROUT58 (out), E14 ROUT59 (out), F2 RCLK0 (out), F3 ~{LOCK0} (out), F4 ROUT07 (out), F11 ~{PWRDWN4} (in), F13 RCLK5 (out), G3 ROUT06 (out), G4 ROUT05 (out), G11 ROUT55 (out), G12 ROUT56 (out), H2 ROUT04 (out), H3 ROUT02 (out), H4 ROUT03 (out), H11 ROUT54 (out), H12 ROUT53 (out), J2 ROUT12 (out), J3 ROUT10 (out), J11 ROUT52 (out), J12 ROUT51 (out), K2 ROUT14 (out), K3 ROUT00 (out), K4 ROUT01 (out), K11 BIST_ACT (in), K12 ROUT50 (out), K13 ROUT40 (out), L1 ROUT13 (out), L2 RCLK1 (out), L3 ROUT11 (out), L6 ROUT21 (out), L8 ROUT31 (out), L9 ROUT34 (out), L11 ROUT45 (out), L12 ROUT41 (out), L13 ROUT44 (out), L14 ROUT42 (out), M1 ROUT15 (out), M2 ROUT18 (out), M3 ROUT19 (out), M4 ROUT29 (out), M5 ROUT25 (out), M6 ROUT23 (out), M7 ROUT20 (out), M8 ROUT30 (out), M9 ROUT33 (out), M10 ROUT35 (out), M11 ROUT36 (out), M12 ROUT46 (out), M13 RCLK4 (out), M14 ROUT43 (out), N1 ROUT16 (out), N2 ROUT17 (out), N3 ~{LOCK2} (out), N4 ROUT27 (out), N5 RCLK2 (out), N6 ROUT22 (out), N9 ROUT32 (out), N10 RCLK3 (out), N11 ROUT37 (out), N12 ROUT39 (out), N13 ROUT47 (out), N14 ROUT48 (out), P1 ~{LOCK1} (out), P2 ROUT28 (out), P3 ROUT26 (out), P4 ROUT24 (out), P11 ROUT38 (out), P12 ~{LOCK3} (out), P13 ~{LOCK4} (out), P14 ROUT49 (out)
part B pins: A1 DGND (power), A5 AGND (power), A8 AGND (power), A11 AVDD (power), A14 PGND (power), B1 DVDD (power), B2 GND (power), B3 DVDD (power), B6 AVDD (power), B7 AGND (power), B8 AGND (power), B9 AVDD (power), B11 AGND (power), B12 PGND (power), B13 NC, B14 GND (power), C4 DVDD (power), C7 AVDD (power), C13 NC, D4 DGND (power), D5 DGND (power), D6 DVDD (power), D7 DGND (power), D9 DGND (power), D10 PGND (power), D11 DGND (power), D12 DVDD (power), E1 PVDD (power), E3 NC, E5 DGND (power), E6 DVDD (power), E7 DVDD (power), E8 DGND (power), E9 DVDD (power), E10 DVDD (power), F1 PVDD (power), F5 DGND (power), F6 DGND (power), F7 DVDD (power), F8 DGND (power), F9 DGND (power), F10 DVDD (power), F12 DVDD (power), F14 PVDD (power), G1 PGND (power), G2 PGND (power), G5 DGND (power), G6 DVDD (power), G7 DGND (power), G8 DGND (power), G9 DGND (power), G10 DVDD (power), G13 PGND (power), G14 PVDD (power), H1 PGND (power), H5 DGND (power), H6 DVDD (power), H7 DGND (power), H8 DGND (power), H9 DGND (power), H10 DVDD (power), H13 PGND (power), H14 PGND (power), J1 PVDD (power), J4 PGND (power), J5 DVDD (power), J6 DGND (power), J7 DGND (power), J8 DVDD (power), J9 DVDD (power), J10 DVDD (power), J13 PGND (power), J14 PVDD (power), K1 PVDD (power), K5 DVDD (power), K6 DVDD (power), K7 DVDD (power), K8 DGND (power), K9 DGND (power), K10 DVDD (power), K14 PVDD (power), L4 GND (power), L5 GND (power), L7 DGND (power), L10 DVDD (power), N7 PGND (power), N8 PGND (power), P5 PVDD (power), P6 PVDD (power), P7 PGND (power), P8 PGND (power), P9 PVDD (power), P10 PVDD (power)

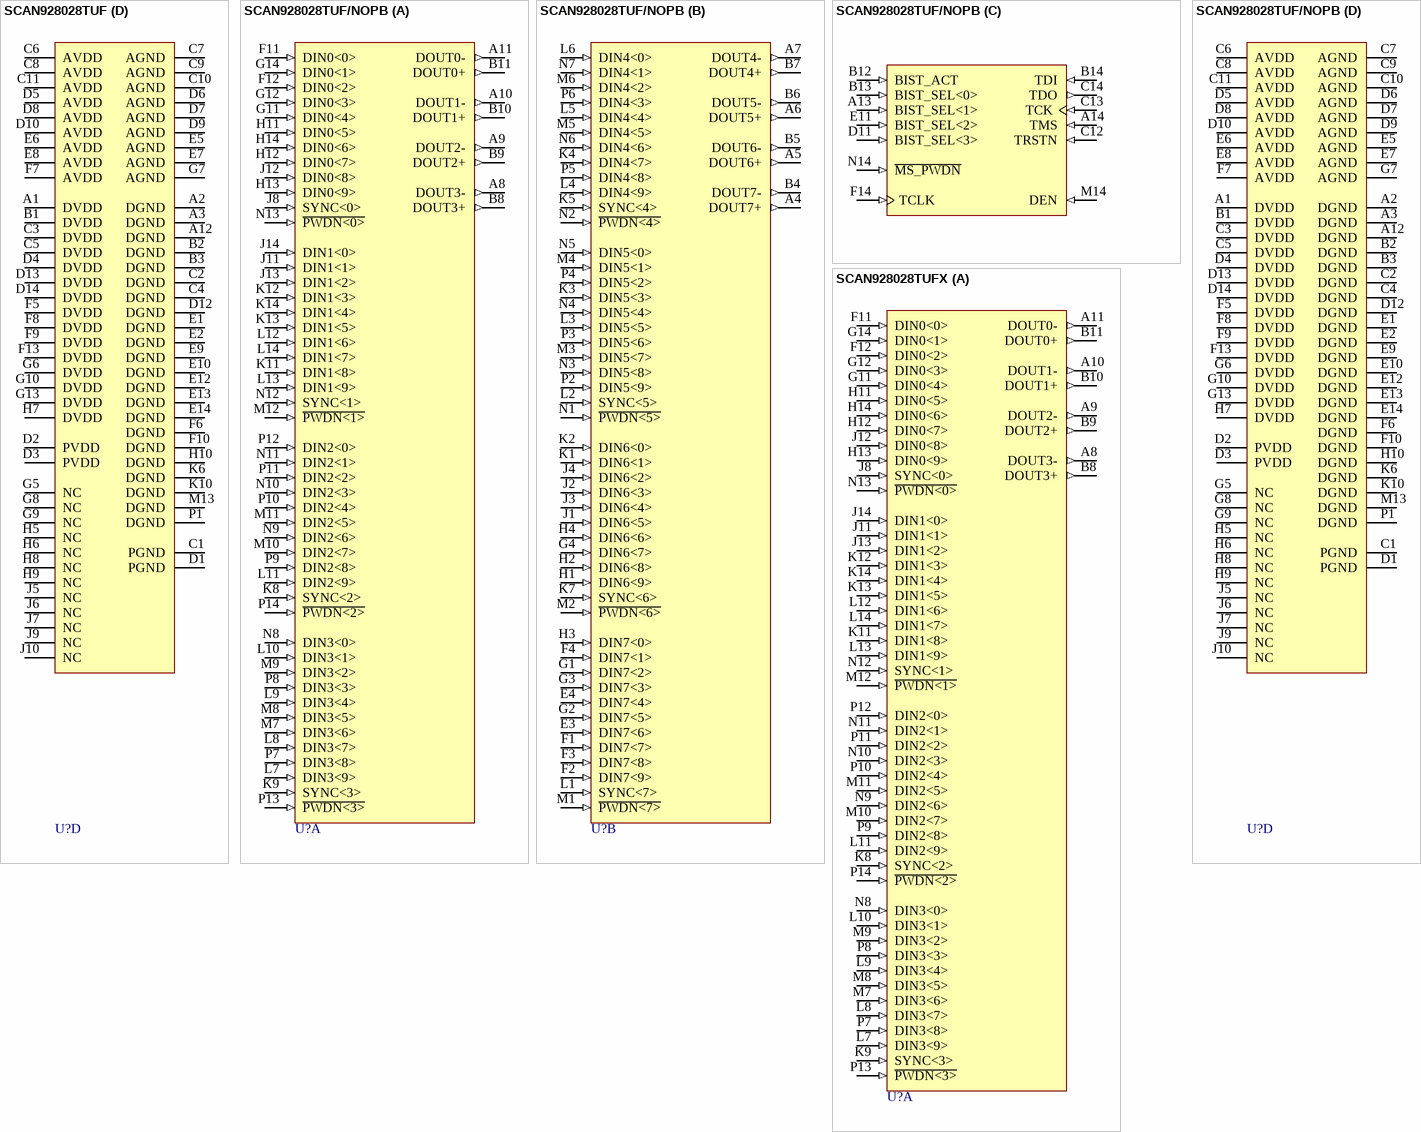
[diagram p118: symbols SCAN928028TUF to SCAN928028TUFX]

## SCAN928028TUF
designator U?
8 Channel 10:1 Serializer with IEEE 1149.1 and At-Speed BIST, 196-pin LBGA; PartNumber: SCAN928028TUF; Manufacturer: National Semiconductor; PackageTopMarking: NSUZXYYTTE#*SCAN928028T*UF*BBBBB; PowerWise: N; CompType: Interface IC; High-Reliability: Y; DatasheetVersion: May-2008; PackageVersion: revC, Jul-2005; PackageReference: UJB196A; PackageDescription: LBGA, 15 x 15 x 1.37mm, 196 Ball, 1.0mm Pitch; RoHS: N; PinCount: 196; Code_JEDEC: MO-192-AAE-1; ComponentLink1Description: Manufacturer URL; ComponentLink1URL: http://www.national.com/; ComponentLink2Description: SCAN928028 Datasheet; ComponentLink2URL: http://www.national.com/ds/SC/SCAN928028.pdf; ComponentLink3Description: SCAN928028 Web Page; ComponentLink3URL: http://www.national.com/pf/SC/SCAN928028.html; ComponentLink4Description: UJB196A Package Page; ComponentLink4URL: http://www.national.com/packaging/folders/ujb196a.html
footprint UJB196A (BGA, 196-Leads, Body 15x15mm, Pitch 1mm)
part A pins: A8 DOUT3- (out), A9 DOUT2- (out), A10 DOUT1- (out), A11 DOUT0- (out), B8 DOUT3+ (out), B9 DOUT2+ (out), B10 DOUT1+ (out), B11 DOUT0+ (out), F11 DIN0<0> (in), F12 DIN0<2> (in), G11 DIN0<4> (in), G12 DIN0<3> (in), G14 DIN0<1> (in), H11 DIN0<5> (in), H12 DIN0<7> (in), H13 DIN0<9> (in), H14 DIN0<6> (in), J8 SYNC<0> (in), J11 DIN1<1> (in), J12 DIN0<8> (in), J13 DIN1<2> (in), J14 DIN1<0> (in), K8 SYNC<2> (in), K9 SYNC<3> (in), K11 DIN1<8> (in), K12 DIN1<3> (in), K13 DIN1<5> (in), K14 DIN1<4> (in), L7 DIN3<9> (in), L8 DIN3<7> (in), L9 DIN3<4> (in), L10 DIN3<1> (in), L11 DIN2<9> (in), L12 DIN1<6> (in), L13 DIN1<9> (in), L14 DIN1<7> (in), M7 DIN3<6> (in), M8 DIN3<5> (in), M9 DIN3<2> (in), M10 DIN2<7> (in), M11 DIN2<5> (in), M12 ~{PWDN<1>} (in), N8 DIN3<0> (in), N9 DIN2<6> (in), N10 DIN2<3> (in), N11 DIN2<1> (in), N12 SYNC<1> (in), N13 ~{PWDN<0>} (in), P7 DIN3<8> (in), P8 DIN3<3> (in), P9 DIN2<8> (in), P10 DIN2<4> (in), P11 DIN2<2> (in), P12 DIN2<0> (in), P13 ~{PWDN<3>} (in), P14 ~{PWDN<2>} (in)
part B pins: A4 DOUT7+ (out), A5 DOUT6+ (out), A6 DOUT5+ (out), A7 DOUT4- (out), B4 DOUT7- (out), B5 DOUT6- (out), B6 DOUT5- (out), B7 DOUT4+ (out), E3 DIN7<6> (in), E4 DIN7<4> (in), F1 DIN7<7> (in), F2 DIN7<9> (in), F3 DIN7<8> (in), F4 DIN7<1> (in), G1 DIN7<2> (in), G2 DIN7<5> (in), G3 DIN7<3> (in), G4 DIN6<7> (in), H1 DIN6<9> (in), H2 DIN6<8> (in), H3 DIN7<0> (in), H4 DIN6<6> (in), J1 DIN6<5> (in), J2 DIN6<3> (in), J3 DIN6<4> (in), J4 DIN6<2> (in), K1 DIN6<1> (in), K2 DIN6<0> (in), K3 DIN5<3> (in), K4 DIN4<7> (in), K5 SYNC<4> (in), K7 SYNC<6> (in), L1 SYNC<7> (in), L2 SYNC<5> (in), L3 DIN5<5> (in), L4 DIN4<9> (in), L5 DIN4<4> (in), L6 DIN4<0> (in), M1 ~{PWDN<7>} (in), M2 ~{PWDN<6>} (in), M3 DIN5<7> (in), M4 DIN5<1> (in), M5 DIN4<5> (in), M6 DIN4<2> (in), N1 ~{PWDN<5>} (in), N2 ~{PWDN<4>} (in), N3 DIN5<8> (in), N4 DIN5<4> (in), N5 DIN5<0> (in), N6 DIN4<6> (in), N7 DIN4<1> (in), P2 DIN5<9> (in), P3 DIN5<6> (in), P4 DIN5<2> (in), P5 DIN4<8> (in), P6 DIN4<3> (in)
part C pins: A13 BIST_SEL<1> (in), A14 TMS (in), B12 BIST_ACT (in), B13 BIST_SEL<0> (in), B14 TDI (in), C12 TRSTN (in), C13 TCK (in), C14 TDO (out), D11 BIST_SEL<3> (in), E11 BIST_SEL<2> (in), F14 TCLK (in), M14 DEN (in), N14 ~{MS_PWDN} (in)
part D pins: A1 DVDD (power), A2 DGND (power), A3 DGND (power), A12 DGND (power), B1 DVDD (power), B2 DGND (power), B3 DGND (power), C1 PGND (power), C2 DGND (power), C3 DVDD (power), C4 DGND (power), C5 DVDD (power), C6 AVDD (power), C7 AGND (power), C8 AVDD (power), C9 AGND (power), C10 AGND (power), C11 AVDD (power), D1 PGND (power), D2 PVDD (power), D3 PVDD (power), D4 DVDD (power), D5 AVDD (power), D6 AGND (power), D7 AGND (power), D8 AVDD (power), D9 AGND (power), D10 AVDD (power), D12 DGND (power), D13 DVDD (power), D14 DVDD (power), E1 DGND (power), E2 DGND (power), E5 AGND (power), E6 AVDD (power), E7 AGND (power), E8 AVDD (power), E9 DGND (power), E10 DGND (power), E12 DGND (power), E13 DGND (power), E14 DGND (power), F5 DVDD (power), F6 DGND (power), F7 AVDD (power), F8 DVDD (power), F9 DVDD (power), F10 DGND (power), F13 DVDD (power), G5 NC, G6 DVDD (power), G7 AGND (power), G8 NC, G9 NC, G10 DVDD (power), G13 DVDD (power), H5 NC, H6 NC, H7 DVDD (power), H8 NC, H9 NC, H10 DGND (power), J5 NC, J6 NC, J7 NC, J9 NC, J10 NC, K6 DGND (power), K10 DGND (power), M13 DGND (power), P1 DGND (power)

## SCAN928028TUF/NOPB
designator U?
8 Channel 10:1 Serializer with IEEE 1149.1 and At-Speed BIST, 196-pin LBGA, Pb-Free; PartNumber: SCAN928028TUF/NOPB; Manufacturer: National Semiconductor; PackageTopMarking: NSUZXYYTTE#*SCAN928028T*UF*BBBBB; PowerWise: N; CompType: Interface IC; High-Reliability: Y; DatasheetVersion: May-2008; PackageVersion: revC, Jul-2005; PackageReference: UJB196A; PackageDescription: LBGA, 15 x 15 x 1.37mm, 196 Ball, 1.0mm Pitch; RoHS: Y; PinCount: 196; Code_JEDEC: MO-192-AAE-1; ComponentLink1Description: Manufacturer URL; ComponentLink1URL: http://www.national.com/; ComponentLink2Description: SCAN928028 Datasheet; ComponentLink2URL: http://www.national.com/ds/SC/SCAN928028.pdf; ComponentLink3Description: SCAN928028 Web Page; ComponentLink3URL: http://www.national.com/pf/SC/SCAN928028.html; ComponentLink4Description: UJB196A Package Page; ComponentLink4URL: http://www.national.com/packaging/folders/ujb196a.html
footprint UJB196A (BGA, 196-Leads, Body 15x15mm, Pitch 1mm)
part A pins: A8 DOUT3- (out), A9 DOUT2- (out), A10 DOUT1- (out), A11 DOUT0- (out), B8 DOUT3+ (out), B9 DOUT2+ (out), B10 DOUT1+ (out), B11 DOUT0+ (out), F11 DIN0<0> (in), F12 DIN0<2> (in), G11 DIN0<4> (in), G12 DIN0<3> (in), G14 DIN0<1> (in), H11 DIN0<5> (in), H12 DIN0<7> (in), H13 DIN0<9> (in), H14 DIN0<6> (in), J8 SYNC<0> (in), J11 DIN1<1> (in), J12 DIN0<8> (in), J13 DIN1<2> (in), J14 DIN1<0> (in), K8 SYNC<2> (in), K9 SYNC<3> (in), K11 DIN1<8> (in), K12 DIN1<3> (in), K13 DIN1<5> (in), K14 DIN1<4> (in), L7 DIN3<9> (in), L8 DIN3<7> (in), L9 DIN3<4> (in), L10 DIN3<1> (in), L11 DIN2<9> (in), L12 DIN1<6> (in), L13 DIN1<9> (in), L14 DIN1<7> (in), M7 DIN3<6> (in), M8 DIN3<5> (in), M9 DIN3<2> (in), M10 DIN2<7> (in), M11 DIN2<5> (in), M12 ~{PWDN<1>} (in), N8 DIN3<0> (in), N9 DIN2<6> (in), N10 DIN2<3> (in), N11 DIN2<1> (in), N12 SYNC<1> (in), N13 ~{PWDN<0>} (in), P7 DIN3<8> (in), P8 DIN3<3> (in), P9 DIN2<8> (in), P10 DIN2<4> (in), P11 DIN2<2> (in), P12 DIN2<0> (in), P13 ~{PWDN<3>} (in), P14 ~{PWDN<2>} (in)
part B pins: A4 DOUT7+ (out), A5 DOUT6+ (out), A6 DOUT5+ (out), A7 DOUT4- (out), B4 DOUT7- (out), B5 DOUT6- (out), B6 DOUT5- (out), B7 DOUT4+ (out), E3 DIN7<6> (in), E4 DIN7<4> (in), F1 DIN7<7> (in), F2 DIN7<9> (in), F3 DIN7<8> (in), F4 DIN7<1> (in), G1 DIN7<2> (in), G2 DIN7<5> (in), G3 DIN7<3> (in), G4 DIN6<7> (in), H1 DIN6<9> (in), H2 DIN6<8> (in), H3 DIN7<0> (in), H4 DIN6<6> (in), J1 DIN6<5> (in), J2 DIN6<3> (in), J3 DIN6<4> (in), J4 DIN6<2> (in), K1 DIN6<1> (in), K2 DIN6<0> (in), K3 DIN5<3> (in), K4 DIN4<7> (in), K5 SYNC<4> (in), K7 SYNC<6> (in), L1 SYNC<7> (in), L2 SYNC<5> (in), L3 DIN5<5> (in), L4 DIN4<9> (in), L5 DIN4<4> (in), L6 DIN4<0> (in), M1 ~{PWDN<7>} (in), M2 ~{PWDN<6>} (in), M3 DIN5<7> (in), M4 DIN5<1> (in), M5 DIN4<5> (in), M6 DIN4<2> (in), N1 ~{PWDN<5>} (in), N2 ~{PWDN<4>} (in), N3 DIN5<8> (in), N4 DIN5<4> (in), N5 DIN5<0> (in), N6 DIN4<6> (in), N7 DIN4<1> (in), P2 DIN5<9> (in), P3 DIN5<6> (in), P4 DIN5<2> (in), P5 DIN4<8> (in), P6 DIN4<3> (in)
part C pins: A13 BIST_SEL<1> (in), A14 TMS (in), B12 BIST_ACT (in), B13 BIST_SEL<0> (in), B14 TDI (in), C12 TRSTN (in), C13 TCK (in), C14 TDO (out), D11 BIST_SEL<3> (in), E11 BIST_SEL<2> (in), F14 TCLK (in), M14 DEN (in), N14 ~{MS_PWDN} (in)
part D pins: A1 DVDD (power), A2 DGND (power), A3 DGND (power), A12 DGND (power), B1 DVDD (power), B2 DGND (power), B3 DGND (power), C1 PGND (power), C2 DGND (power), C3 DVDD (power), C4 DGND (power), C5 DVDD (power), C6 AVDD (power), C7 AGND (power), C8 AVDD (power), C9 AGND (power), C10 AGND (power), C11 AVDD (power), D1 PGND (power), D2 PVDD (power), D3 PVDD (power), D4 DVDD (power), D5 AVDD (power), D6 AGND (power), D7 AGND (power), D8 AVDD (power), D9 AGND (power), D10 AVDD (power), D12 DGND (power), D13 DVDD (power), D14 DVDD (power), E1 DGND (power), E2 DGND (power), E5 AGND (power), E6 AVDD (power), E7 AGND (power), E8 AVDD (power), E9 DGND (power), E10 DGND (power), E12 DGND (power), E13 DGND (power), E14 DGND (power), F5 DVDD (power), F6 DGND (power), F7 AVDD (power), F8 DVDD (power), F9 DVDD (power), F10 DGND (power), F13 DVDD (power), G5 NC, G6 DVDD (power), G7 AGND (power), G8 NC, G9 NC, G10 DVDD (power), G13 DVDD (power), H5 NC, H6 NC, H7 DVDD (power), H8 NC, H9 NC, H10 DGND (power), J5 NC, J6 NC, J7 NC, J9 NC, J10 NC, K6 DGND (power), K10 DGND (power), M13 DGND (power), P1 DGND (power)

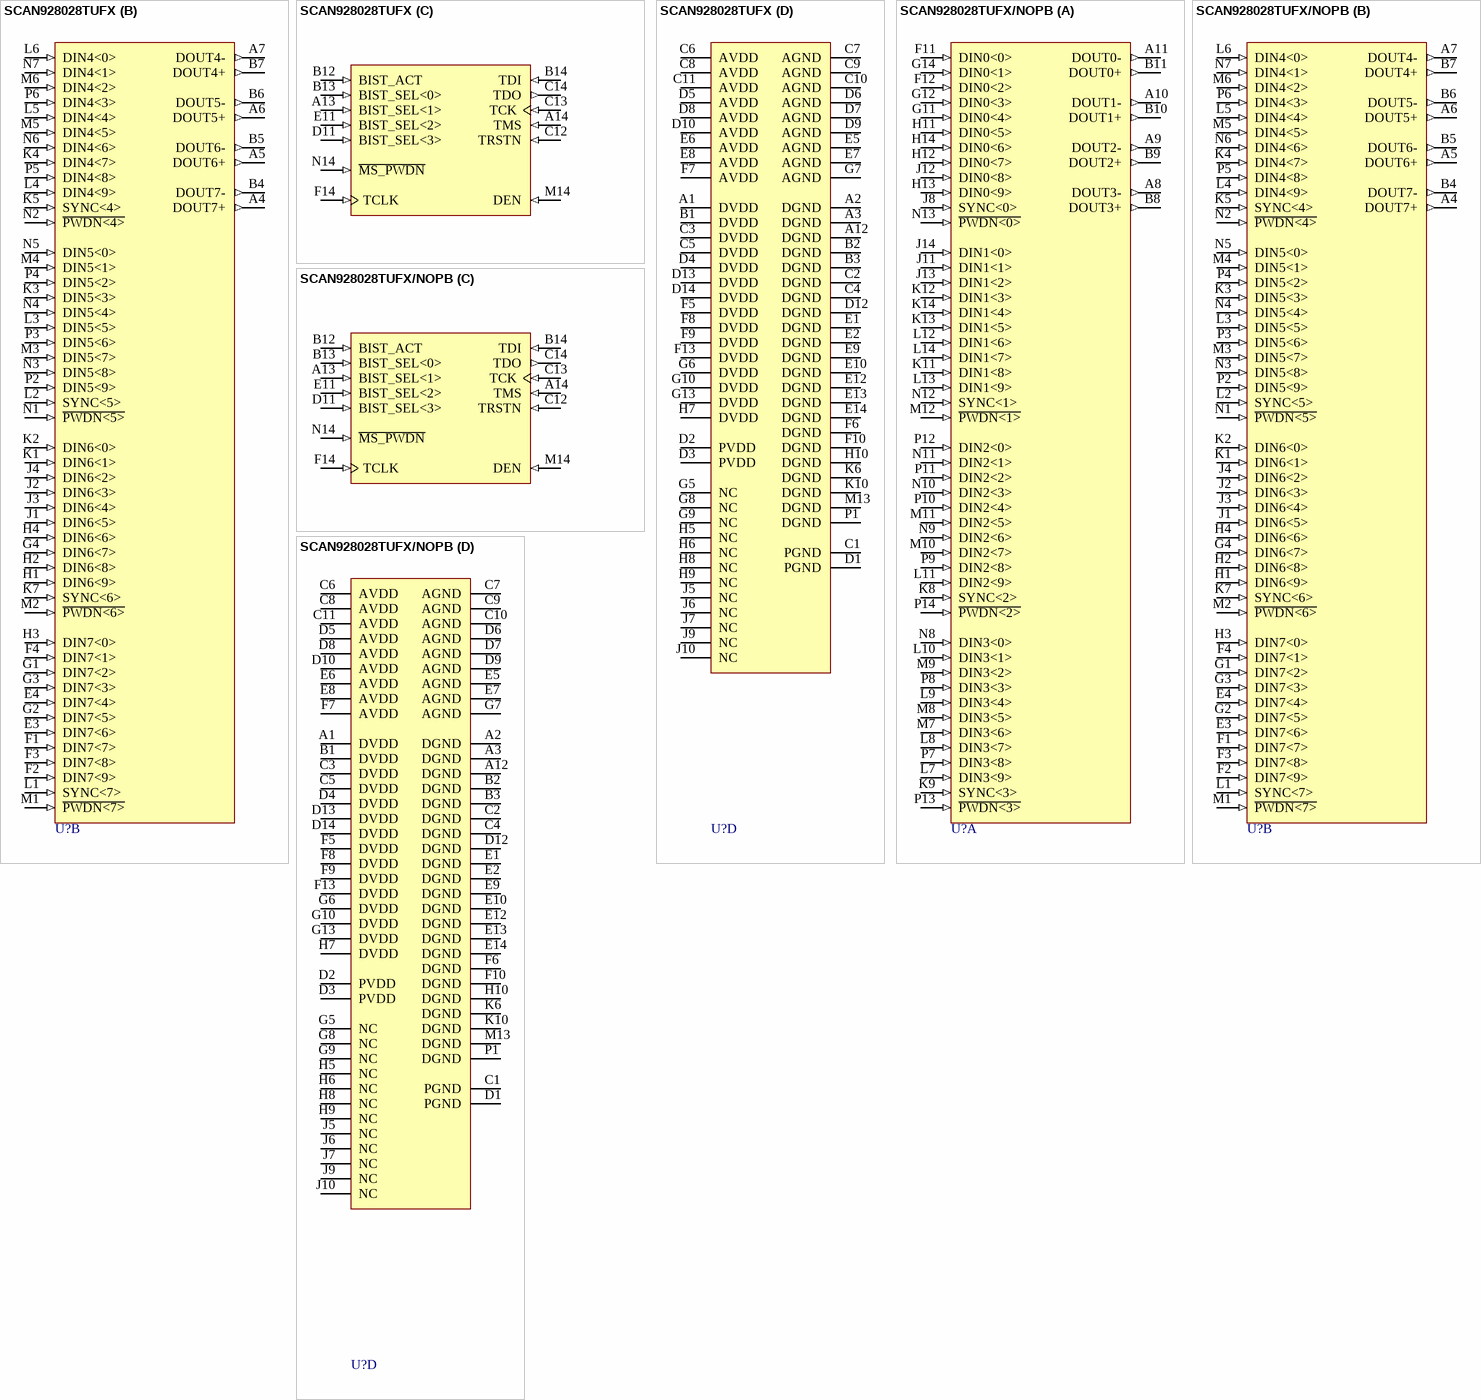
[diagram p119: symbols SCAN928028TUFX to SCAN928028TUFX/NOPB]

## SCAN928028TUFX
designator U?
8 Channel 10:1 Serializer with IEEE 1149.1 and At-Speed BIST, 196-pin LBGA; PartNumber: SCAN928028TUFX; Manufacturer: National Semiconductor; PackageTopMarking: NSUZXYYTTE#*SCAN928028T*UF*BBBBB; PowerWise: N; CompType: Interface IC; High-Reliability: Y; DatasheetVersion: May-2008; PackageVersion: revC, Jul-2005; PackageReference: UJB196A; PackageDescription: LBGA, 15 x 15 x 1.37mm, 196 Ball, 1.0mm Pitch; RoHS: N; PinCount: 196; Code_JEDEC: MO-192-AAE-1; ComponentLink1Description: Manufacturer URL; ComponentLink1URL: http://www.national.com/; ComponentLink2Description: SCAN928028 Datasheet; ComponentLink2URL: http://www.national.com/ds/SC/SCAN928028.pdf; ComponentLink3Description: SCAN928028 Web Page; ComponentLink3URL: http://www.national.com/pf/SC/SCAN928028.html; ComponentLink4Description: UJB196A Package Page; ComponentLink4URL: http://www.national.com/packaging/folders/ujb196a.html
footprint UJB196A (BGA, 196-Leads, Body 15x15mm, Pitch 1mm)
part A pins: A8 DOUT3- (out), A9 DOUT2- (out), A10 DOUT1- (out), A11 DOUT0- (out), B8 DOUT3+ (out), B9 DOUT2+ (out), B10 DOUT1+ (out), B11 DOUT0+ (out), F11 DIN0<0> (in), F12 DIN0<2> (in), G11 DIN0<4> (in), G12 DIN0<3> (in), G14 DIN0<1> (in), H11 DIN0<5> (in), H12 DIN0<7> (in), H13 DIN0<9> (in), H14 DIN0<6> (in), J8 SYNC<0> (in), J11 DIN1<1> (in), J12 DIN0<8> (in), J13 DIN1<2> (in), J14 DIN1<0> (in), K8 SYNC<2> (in), K9 SYNC<3> (in), K11 DIN1<8> (in), K12 DIN1<3> (in), K13 DIN1<5> (in), K14 DIN1<4> (in), L7 DIN3<9> (in), L8 DIN3<7> (in), L9 DIN3<4> (in), L10 DIN3<1> (in), L11 DIN2<9> (in), L12 DIN1<6> (in), L13 DIN1<9> (in), L14 DIN1<7> (in), M7 DIN3<6> (in), M8 DIN3<5> (in), M9 DIN3<2> (in), M10 DIN2<7> (in), M11 DIN2<5> (in), M12 ~{PWDN<1>} (in), N8 DIN3<0> (in), N9 DIN2<6> (in), N10 DIN2<3> (in), N11 DIN2<1> (in), N12 SYNC<1> (in), N13 ~{PWDN<0>} (in), P7 DIN3<8> (in), P8 DIN3<3> (in), P9 DIN2<8> (in), P10 DIN2<4> (in), P11 DIN2<2> (in), P12 DIN2<0> (in), P13 ~{PWDN<3>} (in), P14 ~{PWDN<2>} (in)
part B pins: A4 DOUT7+ (out), A5 DOUT6+ (out), A6 DOUT5+ (out), A7 DOUT4- (out), B4 DOUT7- (out), B5 DOUT6- (out), B6 DOUT5- (out), B7 DOUT4+ (out), E3 DIN7<6> (in), E4 DIN7<4> (in), F1 DIN7<7> (in), F2 DIN7<9> (in), F3 DIN7<8> (in), F4 DIN7<1> (in), G1 DIN7<2> (in), G2 DIN7<5> (in), G3 DIN7<3> (in), G4 DIN6<7> (in), H1 DIN6<9> (in), H2 DIN6<8> (in), H3 DIN7<0> (in), H4 DIN6<6> (in), J1 DIN6<5> (in), J2 DIN6<3> (in), J3 DIN6<4> (in), J4 DIN6<2> (in), K1 DIN6<1> (in), K2 DIN6<0> (in), K3 DIN5<3> (in), K4 DIN4<7> (in), K5 SYNC<4> (in), K7 SYNC<6> (in), L1 SYNC<7> (in), L2 SYNC<5> (in), L3 DIN5<5> (in), L4 DIN4<9> (in), L5 DIN4<4> (in), L6 DIN4<0> (in), M1 ~{PWDN<7>} (in), M2 ~{PWDN<6>} (in), M3 DIN5<7> (in), M4 DIN5<1> (in), M5 DIN4<5> (in), M6 DIN4<2> (in), N1 ~{PWDN<5>} (in), N2 ~{PWDN<4>} (in), N3 DIN5<8> (in), N4 DIN5<4> (in), N5 DIN5<0> (in), N6 DIN4<6> (in), N7 DIN4<1> (in), P2 DIN5<9> (in), P3 DIN5<6> (in), P4 DIN5<2> (in), P5 DIN4<8> (in), P6 DIN4<3> (in)
part C pins: A13 BIST_SEL<1> (in), A14 TMS (in), B12 BIST_ACT (in), B13 BIST_SEL<0> (in), B14 TDI (in), C12 TRSTN (in), C13 TCK (in), C14 TDO (out), D11 BIST_SEL<3> (in), E11 BIST_SEL<2> (in), F14 TCLK (in), M14 DEN (in), N14 ~{MS_PWDN} (in)
part D pins: A1 DVDD (power), A2 DGND (power), A3 DGND (power), A12 DGND (power), B1 DVDD (power), B2 DGND (power), B3 DGND (power), C1 PGND (power), C2 DGND (power), C3 DVDD (power), C4 DGND (power), C5 DVDD (power), C6 AVDD (power), C7 AGND (power), C8 AVDD (power), C9 AGND (power), C10 AGND (power), C11 AVDD (power), D1 PGND (power), D2 PVDD (power), D3 PVDD (power), D4 DVDD (power), D5 AVDD (power), D6 AGND (power), D7 AGND (power), D8 AVDD (power), D9 AGND (power), D10 AVDD (power), D12 DGND (power), D13 DVDD (power), D14 DVDD (power), E1 DGND (power), E2 DGND (power), E5 AGND (power), E6 AVDD (power), E7 AGND (power), E8 AVDD (power), E9 DGND (power), E10 DGND (power), E12 DGND (power), E13 DGND (power), E14 DGND (power), F5 DVDD (power), F6 DGND (power), F7 AVDD (power), F8 DVDD (power), F9 DVDD (power), F10 DGND (power), F13 DVDD (power), G5 NC, G6 DVDD (power), G7 AGND (power), G8 NC, G9 NC, G10 DVDD (power), G13 DVDD (power), H5 NC, H6 NC, H7 DVDD (power), H8 NC, H9 NC, H10 DGND (power), J5 NC, J6 NC, J7 NC, J9 NC, J10 NC, K6 DGND (power), K10 DGND (power), M13 DGND (power), P1 DGND (power)